# Altium integrated library Renesas Diode.IntLib: 1609 symbols (part 2 of 31)
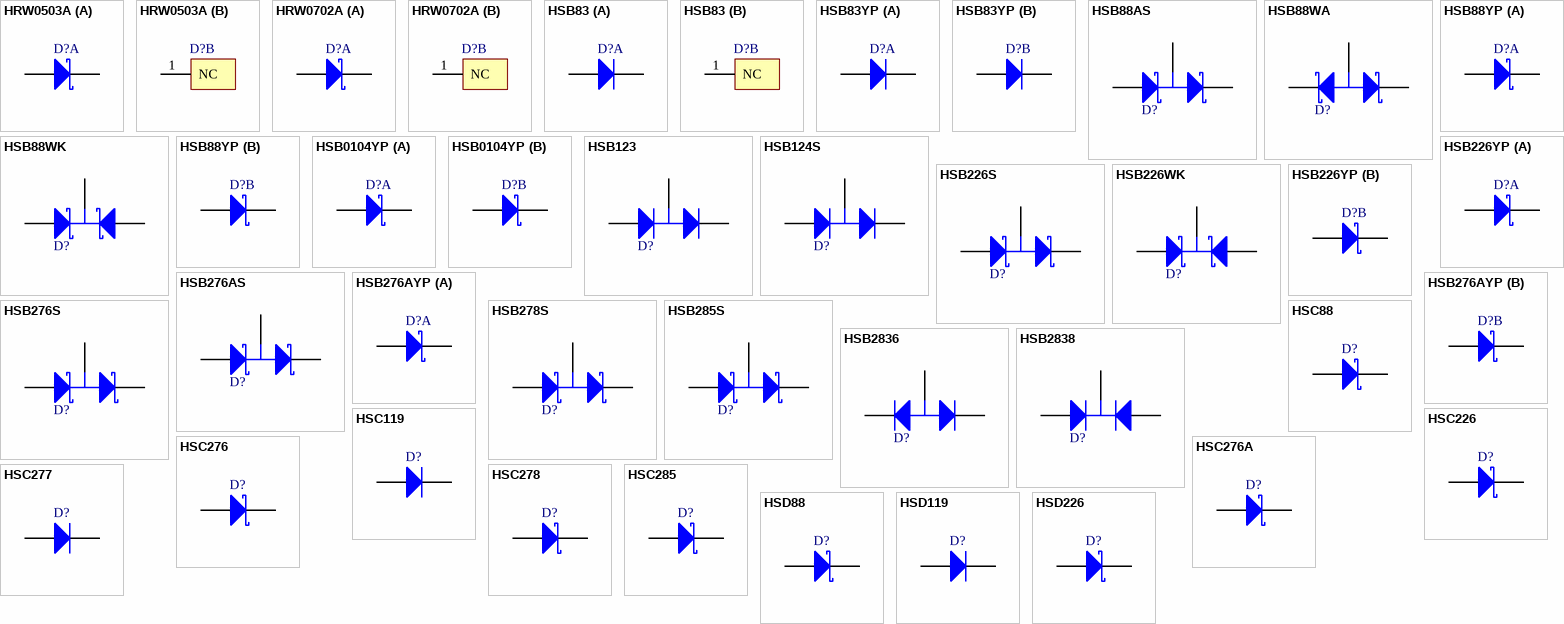
[diagram p46: symbols HRW0503A to HSD226]

## HSB226YP
designator D?
Silicon Schottky Barrier Diode; Published: 12-Feb-2010; DatasheetVersion: Rev.2.00, Sep-2006; PackageVersion: Sep-2005; PackageReference: PTSP0004ZB-A; Publisher: Altium Limited; PackageDescription: 4-Pin Plastic SOT Package 1.3 mm Pitch, 2.1 mm Lead Span (CMPAK-4); Code_JEITA: SC-82; ComponentLink1Description: Manufacturer Link; ComponentLink1URL: http://sg.renesas.com/fmwk.jsp?cnt=diode_landing.jsp&fp=/products/discrete/diodes/; ComponentLink2Description: Datasheet; ComponentLink2URL: http://documentation.renesas.com/eng/products/diode/rej03g0593_hsb226yp.pdf; ComponentLink3Description: Packaging Specification; ComponentLink3URL: http://sg.renesas.com/media/products/common_info/package/pdf/diode/code/ptsp0004zb_a.pdf
footprint PTSP0004ZB-A_N (SOT, 4-Leads, Body 2x1.3 mm, Pitch 1.3mm, Lead Span 2.1mm, IPC Medium Density)
footprint PTSP0004ZB-A_L (SOT, 4-Leads, Body 2x1.3 mm, Pitch 1.3mm, Lead Span 2.1mm, IPC High Density)
footprint PTSP0004ZB-A_M (SOT, 4-Leads, Body 2x1.3 mm, Pitch 1.3mm, Lead Span 2.1mm, IPC Low Density)
signal-integrity model HSB226YP
part A pins: 1 A, 4 K
part B pins: 2 A, 3 K

## HSB276AS
designator D?
Silicon Schottky Barrier Diode for Balanced Mixer; Published: 12-Feb-2010; DatasheetVersion: Rev.1.00, Apr-2005; PackageVersion: Sep-2005; PackageReference: PTSP0003ZB-A; Publisher: Altium Limited; PackageDescription: 3-Pin Plastic SOT-23 Package 0.65 mm Pitch, 2.1 mm Lead Span (CMPAK); Code_JEITA: SC-70; ComponentLink1Description: Manufacturer Link; ComponentLink1URL: http://sg.renesas.com/fmwk.jsp?cnt=diode_landing.jsp&fp=/products/discrete/diodes/; ComponentLink2Description: Datasheet; ComponentLink2URL: http://documentation.renesas.com/eng/products/diode/rej03g0594_hsb276as.pdf; ComponentLink3Description: Packaging Specification; ComponentLink3URL: http://sg.renesas.com/media/products/common_info/package/pdf/diode/code/ptsp0003zb_a.pdf
footprint PTSP0003ZB-A_N (SOT23, 3-Leads, Body 2.0 x1.25mm, Pitch 0.65mm, Lead Span 2.1mm, IPC Medium Density)
footprint PTSP0003ZB-A_L (SOT23, 3-Leads, Body 2.0 x1.25mm, Pitch 0.65mm, Lead Span 2.1mm, IPC High Density)
footprint PTSP0003ZB-A_M (SOT23, 3-Leads, Body 2.0 x1.25mm, Pitch 0.65mm, Lead Span 2.1mm, IPC Low Density)
signal-integrity model HSB276AS
pins: 1 K, 2 A, 3 C

## HSB276AYP
designator D?
Silicon Schottky Barrier Diode for High Speed Switching; Published: 12-Feb-2010; DatasheetVersion: Rev.1.00, Apr-2005; PackageVersion: Sep-2005; PackageReference: PTSP0004ZB-A; Publisher: Altium Limited; PackageDescription: 4-Pin Plastic SOT Package 1.3 mm Pitch, 2.1 mm Lead Span (CMPAK-4); Code_JEITA: SC-82; ComponentLink1Description: Manufacturer Link; ComponentLink1URL: http://sg.renesas.com/fmwk.jsp?cnt=diode_landing.jsp&fp=/products/discrete/diodes/; ComponentLink2Description: Datasheet; ComponentLink2URL: http://documentation.renesas.com/eng/products/diode/rej03g0595_hsb276ayp.pdf; ComponentLink3Description: Packaging Specification; ComponentLink3URL: http://sg.renesas.com/media/products/common_info/package/pdf/diode/code/ptsp0004zb_a.pdf
footprint PTSP0004ZB-A_N (SOT, 4-Leads, Body 2x1.3 mm, Pitch 1.3mm, Lead Span 2.1mm, IPC Medium Density)
footprint PTSP0004ZB-A_L (SOT, 4-Leads, Body 2x1.3 mm, Pitch 1.3mm, Lead Span 2.1mm, IPC High Density)
footprint PTSP0004ZB-A_M (SOT, 4-Leads, Body 2x1.3 mm, Pitch 1.3mm, Lead Span 2.1mm, IPC Low Density)
signal-integrity model HSB276AYP
part A pins: 1 A, 4 K
part B pins: 2 A, 3 K

## HSB276S
designator D?
Silicon Schottky Barrier Diode for Balanced Mixer; Published: 12-Feb-2010; DatasheetVersion: Rev.1.00, Nov-2003; PackageVersion: Sep-2005; PackageReference: PTSP0003ZB-A; Publisher: Altium Limited; PackageDescription: 3-Pin Plastic SOT-23 Package 0.65 mm Pitch, 2.1 mm Lead Span (CMPAK); Code_JEITA: SC-70; ComponentLink1Description: Manufacturer Link; ComponentLink1URL: http://sg.renesas.com/fmwk.jsp?cnt=diode_landing.jsp&fp=/products/discrete/diodes/; ComponentLink2Description: Datasheet; ComponentLink2URL: http://documentation.renesas.com/eng/products/diode/rej03g0133_hsb276s.pdf; ComponentLink3Description: Packaging Specification; ComponentLink3URL: http://sg.renesas.com/media/products/common_info/package/pdf/diode/code/ptsp0003zb_a.pdf
footprint PTSP0003ZB-A_N (SOT23, 3-Leads, Body 2.0 x1.25mm, Pitch 0.65mm, Lead Span 2.1mm, IPC Medium Density)
footprint PTSP0003ZB-A_L (SOT23, 3-Leads, Body 2.0 x1.25mm, Pitch 0.65mm, Lead Span 2.1mm, IPC High Density)
footprint PTSP0003ZB-A_M (SOT23, 3-Leads, Body 2.0 x1.25mm, Pitch 0.65mm, Lead Span 2.1mm, IPC Low Density)
signal-integrity model HSB276S
pins: 1 K, 2 A, 3 C

## HSB278S
designator D?
Silicon Schottky Barrier Diode for High Speed Switching; Published: 12-Feb-2010; DatasheetVersion: Rev.1.00, Apr-2005; PackageVersion: Sep-2005; PackageReference: PTSP0003ZB-A; Publisher: Altium Limited; PackageDescription: 3-Pin Plastic SOT-23 Package 0.65 mm Pitch, 2.1 mm Lead Span (CMPAK); Code_JEITA: SC-70; ComponentLink1Description: Manufacturer Link; ComponentLink1URL: http://sg.renesas.com/fmwk.jsp?cnt=diode_landing.jsp&fp=/products/discrete/diodes/; ComponentLink2Description: Datasheet; ComponentLink2URL: http://documentation.renesas.com/eng/products/diode/rej03g0596_hsb278s.pdf; ComponentLink3Description: Packaging Specification; ComponentLink3URL: http://sg.renesas.com/media/products/common_info/package/pdf/diode/code/ptsp0003zb_a.pdf
footprint PTSP0003ZB-A_N (SOT23, 3-Leads, Body 2.0 x1.25mm, Pitch 0.65mm, Lead Span 2.1mm, IPC Medium Density)
footprint PTSP0003ZB-A_L (SOT23, 3-Leads, Body 2.0 x1.25mm, Pitch 0.65mm, Lead Span 2.1mm, IPC High Density)
footprint PTSP0003ZB-A_M (SOT23, 3-Leads, Body 2.0 x1.25mm, Pitch 0.65mm, Lead Span 2.1mm, IPC Low Density)
signal-integrity model HSB278S
pins: 1 K, 2 A, 3 C

## HSB285S
designator D?
Silicon Schottky Barrier Diode for Detector; Published: 12-Feb-2010; DatasheetVersion: Rev.2.00, May-2006; PackageVersion: Sep-2005; PackageReference: PTSP0003ZB-A; Publisher: Altium Limited; PackageDescription: 3-Pin Plastic SOT-23 Package 0.65 mm Pitch, 2.1 mm Lead Span (CMPAK); Code_JEITA: SC-70; ComponentLink1Description: Manufacturer Link; ComponentLink1URL: http://sg.renesas.com/fmwk.jsp?cnt=diode_landing.jsp&fp=/products/discrete/diodes/; ComponentLink2Description: Datasheet; ComponentLink2URL: http://documentation.renesas.com/eng/products/diode/rej03g0010_hsb285s.pdf; ComponentLink3Description: Packaging Specification; ComponentLink3URL: http://sg.renesas.com/media/products/common_info/package/pdf/diode/code/ptsp0003zb_a.pdf
footprint PTSP0003ZB-A_N (SOT23, 3-Leads, Body 2.0 x1.25mm, Pitch 0.65mm, Lead Span 2.1mm, IPC Medium Density)
footprint PTSP0003ZB-A_L (SOT23, 3-Leads, Body 2.0 x1.25mm, Pitch 0.65mm, Lead Span 2.1mm, IPC High Density)
footprint PTSP0003ZB-A_M (SOT23, 3-Leads, Body 2.0 x1.25mm, Pitch 0.65mm, Lead Span 2.1mm, IPC Low Density)
signal-integrity model HSB285S
pins: 1 K, 2 A, 3 C

## HSB2836
designator D?
Silicon Epitaxial Planar Diode for High Speed Switching; Published: 12-Feb-2010; DatasheetVersion: Rev.3.00, Dec-2008; PackageVersion: Sep-2005; PackageReference: PTSP0003ZB-A; Publisher: Altium Limited; PackageDescription: 3-Pin Plastic SOT-23 Package 0.65 mm Pitch, 2.1 mm Lead Span (CMPAK); Code_JEITA: SC-70; ComponentLink1Description: Manufacturer Link; ComponentLink1URL: http://sg.renesas.com/fmwk.jsp?cnt=diode_landing.jsp&fp=/products/discrete/diodes/; ComponentLink2Description: Datasheet; ComponentLink2URL: http://documentation.renesas.com/eng/products/diode/rej03g0548_hsb2836.pdf; ComponentLink3Description: Packaging Specification; ComponentLink3URL: http://sg.renesas.com/media/products/common_info/package/pdf/diode/code/ptsp0003zb_a.pdf
footprint PTSP0003ZB-A_N (SOT23, 3-Leads, Body 2.0 x1.25mm, Pitch 0.65mm, Lead Span 2.1mm, IPC Medium Density)
footprint PTSP0003ZB-A_L (SOT23, 3-Leads, Body 2.0 x1.25mm, Pitch 0.65mm, Lead Span 2.1mm, IPC High Density)
footprint PTSP0003ZB-A_M (SOT23, 3-Leads, Body 2.0 x1.25mm, Pitch 0.65mm, Lead Span 2.1mm, IPC Low Density)
signal-integrity model HSB2836
pins: 1 K1, 2 K2, 3 A

## HSB2838
designator D?
Silicon Epitaxial Planar Diode for High Speed Switching; Published: 12-Feb-2010; DatasheetVersion: Rev.3.00, Jan-2009; PackageVersion: Sep-2005; PackageReference: PTSP0003ZB-A; Publisher: Altium Limited; PackageDescription: 3-Pin Plastic SOT-23 Package 0.65 mm Pitch, 2.1 mm Lead Span (CMPAK); Code_JEITA: SC-70; ComponentLink1Description: Manufacturer Link; ComponentLink1URL: http://sg.renesas.com/fmwk.jsp?cnt=diode_landing.jsp&fp=/products/discrete/diodes/; ComponentLink2Description: Datasheet; ComponentLink2URL: http://documentation.renesas.com/eng/products/diode/rej03g0549_hsb2838.pdf; ComponentLink3Description: Packaging Specification; ComponentLink3URL: http://sg.renesas.com/media/products/common_info/package/pdf/diode/code/ptsp0003zb_a.pdf
footprint PTSP0003ZB-A_N (SOT23, 3-Leads, Body 2.0 x1.25mm, Pitch 0.65mm, Lead Span 2.1mm, IPC Medium Density)
footprint PTSP0003ZB-A_L (SOT23, 3-Leads, Body 2.0 x1.25mm, Pitch 0.65mm, Lead Span 2.1mm, IPC High Density)
footprint PTSP0003ZB-A_M (SOT23, 3-Leads, Body 2.0 x1.25mm, Pitch 0.65mm, Lead Span 2.1mm, IPC Low Density)
signal-integrity model HSB2838
pins: 1 A1, 2 A2, 3 K

## HSC88
designator D?
Silicon Schottky Barrier Diode for Various Detector, Mixer; Published: 12-Feb-2010; DatasheetVersion: Rev.1.00, Apr-2005; PackageVersion: Oct-2006; PackageReference: PWSF0002ZA-A; Publisher: Altium Limited; PackageDescription: 2-Pin Plastic Small Outline Diode, Flat Leads, Body 0.8 x 1.2 mm (UFP); Code_JEITA: SC-79; ComponentLink1Description: Manufacturer Link; ComponentLink1URL: http://sg.renesas.com/fmwk.jsp?cnt=diode_landing.jsp&fp=/products/discrete/diodes/; ComponentLink2Description: Datasheet; ComponentLink2URL: http://documentation.renesas.com/eng/products/diode/rej03g0624_hsc88.pdf; ComponentLink3Description: Packaging Specification; ComponentLink3URL: http://sg.renesas.com/media/products/common_info/package/pdf/diode/code/pwsf0002za_a.pdf
footprint PWSF0002ZA-A (SOD, 2-Flat Leads, Body 0.8x1.2x0.7mm, Renesas Recommended)
signal-integrity model HSC88
pins: 1 K, 2 A

## HSC119
designator D?
Silicon Epitaxial Planar Diode for High Speed Switching; Published: 12-Feb-2010; DatasheetVersion: Rev.1.00, Mar-2004; PackageVersion: Oct-2006; PackageReference: PWSF0002ZA-A; Publisher: Altium Limited; PackageDescription: 2-Pin Plastic Small Outline Diode, Flat Leads, Body 0.8 x 1.2 mm (UFP); Code_JEITA: SC-79; ComponentLink1Description: Manufacturer Link; ComponentLink1URL: http://sg.renesas.com/fmwk.jsp?cnt=diode_landing.jsp&fp=/products/discrete/diodes/; ComponentLink2Description: Datasheet; ComponentLink2URL: http://documentation.renesas.com/eng/products/diode/rej03g0188_hsc119.pdf; ComponentLink3Description: Packaging Specification; ComponentLink3URL: http://sg.renesas.com/media/products/common_info/package/pdf/diode/code/pwsf0002za_a.pdf
footprint PWSF0002ZA-A (SOD, 2-Flat Leads, Body 0.8x1.2x0.7mm, Renesas Recommended)
signal-integrity model HSC119
pins: 1 K, 2 A

## HSC226
designator D?
Silicon Schottky Barrier Diode; Published: 12-Feb-2010; DatasheetVersion: Rev.3.00, Sep-2006; PackageVersion: Oct-2006; PackageReference: PWSF0002ZA-A; Publisher: Altium Limited; PackageDescription: 2-Pin Plastic Small Outline Diode, Flat Leads, Body 0.8 x 1.2 mm (UFP); Code_JEITA: SC-79; ComponentLink1Description: Manufacturer Link; ComponentLink1URL: http://sg.renesas.com/fmwk.jsp?cnt=diode_landing.jsp&fp=/products/discrete/diodes/; ComponentLink2Description: Datasheet; ComponentLink2URL: http://documentation.renesas.com/eng/products/diode/rej03g0599_hsc226.pdf; ComponentLink3Description: Packaging Specification; ComponentLink3URL: http://sg.renesas.com/media/products/common_info/package/pdf/diode/code/pwsf0002za_a.pdf
footprint PWSF0002ZA-A (SOD, 2-Flat Leads, Body 0.8x1.2x0.7mm, Renesas Recommended)
signal-integrity model HSC226
pins: 1 K, 2 A

## HSC276
designator D?
Silicon Schottky Barrier Diode for Mixer; Published: 12-Feb-2010; DatasheetVersion: Rev.2.00, Nov-2003; PackageVersion: Oct-2006; PackageReference: PWSF0002ZA-A; Publisher: Altium Limited; PackageDescription: 2-Pin Plastic Small Outline Diode, Flat Leads, Body 0.8 x 1.2 mm (UFP); Code_JEITA: SC-79; ComponentLink1Description: Manufacturer Link; ComponentLink1URL: http://sg.renesas.com/fmwk.jsp?cnt=diode_landing.jsp&fp=/products/discrete/diodes/; ComponentLink2Description: Datasheet; ComponentLink2URL: http://documentation.renesas.com/eng/products/diode/rej03g0134_hsc276.pdf; ComponentLink3Description: Packaging Specification; ComponentLink3URL: http://sg.renesas.com/media/products/common_info/package/pdf/diode/code/pwsf0002za_a.pdf
footprint PWSF0002ZA-A (SOD, 2-Flat Leads, Body 0.8x1.2x0.7mm, Renesas Recommended)
signal-integrity model HSC276
pins: 1 K, 2 A

## HSC276A
designator D?
Silicon Schottky Barrier Diode for Mixer; Published: 12-Feb-2010; DatasheetVersion: Rev.1.00, Apr-2005; PackageVersion: Oct-2006; PackageReference: PWSF0002ZA-A; Publisher: Altium Limited; PackageDescription: 2-Pin Plastic Small Outline Diode, Flat Leads, Body 0.8 x 1.2 mm (UFP); Code_JEITA: SC-79; ComponentLink1Description: Manufacturer Link; ComponentLink1URL: http://sg.renesas.com/fmwk.jsp?cnt=diode_landing.jsp&fp=/products/discrete/diodes/; ComponentLink2Description: Datasheet; ComponentLink2URL: http://documentation.renesas.com/eng/products/diode/rej03g0600_hsc276a.pdf; ComponentLink3Description: Packaging Specification; ComponentLink3URL: http://sg.renesas.com/media/products/common_info/package/pdf/diode/code/pwsf0002za_a.pdf
footprint PWSF0002ZA-A (SOD, 2-Flat Leads, Body 0.8x1.2x0.7mm, Renesas Recommended)
signal-integrity model HSC276A
pins: 1 K, 2 A

## HSC277
designator D?
Silicon Epitaxial Planar Diode for UHF/VHF tuner Band Switch; Published: 12-Feb-2010; DatasheetVersion: Rev.2.00, Mar-2005; PackageVersion: Oct-2006; PackageReference: PWSF0002ZA-A; Publisher: Altium Limited; PackageDescription: 2-Pin Plastic Small Outline Diode, Flat Leads, Body 0.8 x 1.2 mm (UFP); Code_JEITA: SC-79; ComponentLink1Description: Manufacturer Link; ComponentLink1URL: http://sg.renesas.com/fmwk.jsp?cnt=diode_landing.jsp&fp=/products/discrete/diodes/; ComponentLink2Description: Datasheet; ComponentLink2URL: http://documentation.renesas.com/eng/products/diode/rej03g0585_hsc277.pdf; ComponentLink3Description: Packaging Specification; ComponentLink3URL: http://sg.renesas.com/media/products/common_info/package/pdf/diode/code/pwsf0002za_a.pdf
footprint PWSF0002ZA-A (SOD, 2-Flat Leads, Body 0.8x1.2x0.7mm, Renesas Recommended)
signal-integrity model HSC277
pins: 1 K, 2 A

## HSC278
designator D?
Silicon Schottky Barrier Diode; Published: 12-Feb-2010; DatasheetVersion: Rev.3.00, Apr-2005; PackageVersion: Oct-2006; PackageReference: PWSF0002ZA-A; Publisher: Altium Limited; PackageDescription: 2-Pin Plastic Small Outline Diode, Flat Leads, Body 0.8 x 1.2 mm (UFP); Code_JEITA: SC-79; ComponentLink1Description: Manufacturer Link; ComponentLink1URL: http://sg.renesas.com/fmwk.jsp?cnt=diode_landing.jsp&fp=/products/discrete/diodes/; ComponentLink2Description: Datasheet; ComponentLink2URL: http://documentation.renesas.com/eng/products/diode/rej03g0601_hsc278.pdf; ComponentLink3Description: Packaging Specification; ComponentLink3URL: http://sg.renesas.com/media/products/common_info/package/pdf/diode/code/pwsf0002za_a.pdf
footprint PWSF0002ZA-A (SOD, 2-Flat Leads, Body 0.8x1.2x0.7mm, Renesas Recommended)
signal-integrity model HSC278
pins: 1 K, 2 A

## HSC285
designator D?
Silicon Schottky Barrier Diode for Detector; Published: 12-Feb-2010; DatasheetVersion: Rev.2.00, May-2006; PackageVersion: Oct-2006; PackageReference: PWSF0002ZA-A; Publisher: Altium Limited; PackageDescription: 2-Pin Plastic Small Outline Diode, Flat Leads, Body 0.8 x 1.2 mm (UFP); Code_JEITA: SC-79; ComponentLink1Description: Manufacturer Link; ComponentLink1URL: http://sg.renesas.com/fmwk.jsp?cnt=diode_landing.jsp&fp=/products/discrete/diodes/; ComponentLink2Description: Datasheet; ComponentLink2URL: http://documentation.renesas.com/eng/products/diode/rej03g0011_hsc285.pdf; ComponentLink3Description: Packaging Specification; ComponentLink3URL: http://sg.renesas.com/media/products/common_info/package/pdf/diode/code/pwsf0002za_a.pdf
footprint PWSF0002ZA-A (SOD, 2-Flat Leads, Body 0.8x1.2x0.7mm, Renesas Recommended)
signal-integrity model HSC285
pins: 1 K, 2 A

## HSD88
designator D?
Silicon Schottky Barrier Diode for Various Detector, Mixer; Published: 12-Feb-2010; DatasheetVersion: Rev.1.00, Apr-2005; PackageVersion: Oct-2006; PackageReference: PUSF0002ZB-A; Publisher: Altium Limited; PackageDescription: 2-Pin Plastic Small Outline Diode, Flat Leads, Body 0.6 x 1.0 mm (SFP); ComponentLink1Description: Manufacturer Link; ComponentLink1URL: http://sg.renesas.com/fmwk.jsp?cnt=diode_landing.jsp&fp=/products/discrete/diodes/; ComponentLink2Description: Datasheet; ComponentLink2URL: http://documentation.renesas.com/eng/products/diode/rej03g0602_hsd88.pdf; ComponentLink3Description: Packaging Specification; ComponentLink3URL: http://sg.renesas.com/media/products/common_info/package/pdf/diode/code/pusf0002zb_a.pdf
footprint PUSF0002ZB-A (SOD, 2-Flat Leads, Body 0.6x1.0x0.55mm, Renesas Recommended)
signal-integrity model HSD88
pins: 1 K, 2 A

## HSD119
designator D?
Silicon Epitaxial Planar Diode for High Speed Switching; Published: 12-Feb-2010; DatasheetVersion: Rev.1.00, Oct-2005; PackageVersion: Oct-2006; PackageReference: PUSF0002ZB-A; Publisher: Altium Limited; PackageDescription: 2-Pin Plastic Small Outline Diode, Flat Leads, Body 0.6 x 1.0 mm (SFP); ComponentLink1Description: Manufacturer Link; ComponentLink1URL: http://sg.renesas.com/fmwk.jsp?cnt=diode_landing.jsp&fp=/products/discrete/diodes/; ComponentLink2Description: Datasheet; ComponentLink2URL: http://documentation.renesas.com/eng/products/diode/rej03g1309_hsd119.pdf; ComponentLink3Description: Packaging Specification; ComponentLink3URL: http://sg.renesas.com/media/products/common_info/package/pdf/diode/code/pusf0002zb_a.pdf
footprint PUSF0002ZB-A (SOD, 2-Flat Leads, Body 0.6x1.0x0.55mm, Renesas Recommended)
signal-integrity model HSD119
pins: 1 K, 2 A

## HSD226
designator D?
Silicon Schottky Barrier Diode for High Speed Switching; Published: 12-Feb-2010; DatasheetVersion: Rev.4.00, Feb-2007; PackageVersion: Oct-2006; PackageReference: PUSF0002ZB-A; Publisher: Altium Limited; PackageDescription: 2-Pin Plastic Small Outline Diode, Flat Leads, Body 0.6 x 1.0 mm (SFP); ComponentLink1Description: Manufacturer Link; ComponentLink1URL: http://sg.renesas.com/fmwk.jsp?cnt=diode_landing.jsp&fp=/products/discrete/diodes/; ComponentLink2Description: Datasheet; ComponentLink2URL: http://documentation.renesas.com/eng/products/diode/rej03g0603_hsd226.pdf; ComponentLink3Description: Packaging Specification; ComponentLink3URL: http://sg.renesas.com/media/products/common_info/package/pdf/diode/code/pusf0002zb_a.pdf
footprint PUSF0002ZB-A (SOD, 2-Flat Leads, Body 0.6x1.0x0.55mm, Renesas Recommended)
signal-integrity model HSD226
pins: 1 K, 2 A

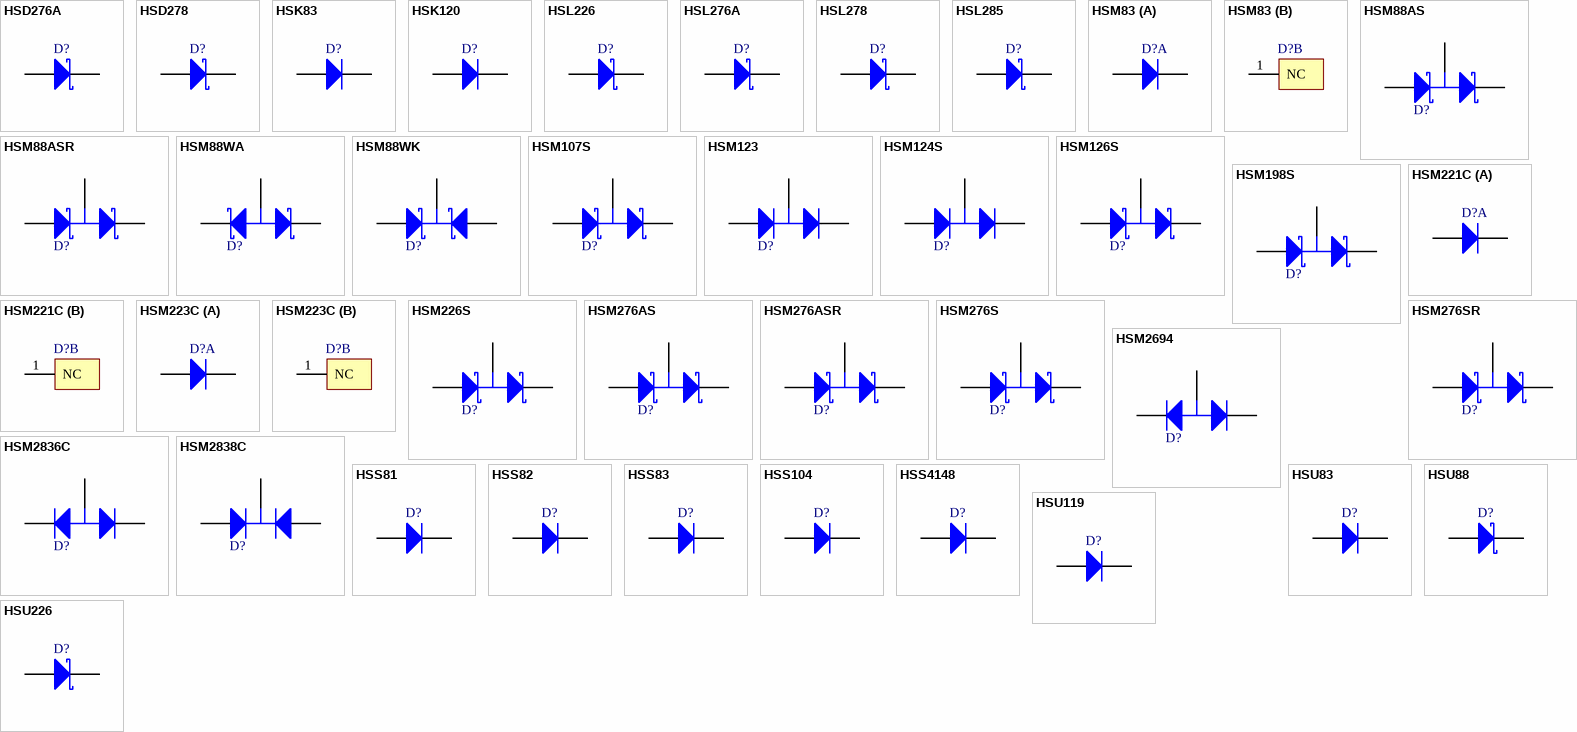
[diagram p2: symbols HSD276A to HSU226]

## HSD276A
designator D?
Silicon Schottky Barrier Diode for Detector; Published: 12-Feb-2010; DatasheetVersion: Rev.1.00, Apr-2005; PackageVersion: Oct-2006; PackageReference: PUSF0002ZB-A; Publisher: Altium Limited; PackageDescription: 2-Pin Plastic Small Outline Diode, Flat Leads, Body 0.6 x 1.0 mm (SFP); ComponentLink1Description: Manufacturer Link; ComponentLink1URL: http://sg.renesas.com/fmwk.jsp?cnt=diode_landing.jsp&fp=/products/discrete/diodes/; ComponentLink2Description: Datasheet; ComponentLink2URL: http://documentation.renesas.com/eng/products/diode/rej03g0604_hsd276a.pdf; ComponentLink3Description: Packaging Specification; ComponentLink3URL: http://sg.renesas.com/media/products/common_info/package/pdf/diode/code/pusf0002zb_a.pdf
footprint PUSF0002ZB-A (SOD, 2-Flat Leads, Body 0.6x1.0x0.55mm, Renesas Recommended)
signal-integrity model HSD276A
pins: 1 K, 2 A

## HSD278
designator D?
Silicon Schottky Barrier Diode; Published: 12-Feb-2010; DatasheetVersion: Rev.2.00, Apr-2005; PackageVersion: Oct-2006; PackageReference: PUSF0002ZB-A; Publisher: Altium Limited; PackageDescription: 2-Pin Plastic Small Outline Diode, Flat Leads, Body 0.6 x 1.0 mm (SFP); ComponentLink1Description: Manufacturer Link; ComponentLink1URL: http://sg.renesas.com/fmwk.jsp?cnt=diode_landing.jsp&fp=/products/discrete/diodes/; ComponentLink2Description: Datasheet; ComponentLink2URL: http://documentation.renesas.com/eng/products/diode/rej03g0605_hsd278.pdf; ComponentLink3Description: Packaging Specification; ComponentLink3URL: http://sg.renesas.com/media/products/common_info/package/pdf/diode/code/pusf0002zb_a.pdf
footprint PUSF0002ZB-A (SOD, 2-Flat Leads, Body 0.6x1.0x0.55mm, Renesas Recommended)
signal-integrity model HSD278
pins: 1 K, 2 A

## HSK83
designator D?
Silicon Epitaxial Planar Diode for High Voltage Switching; Published: 12-Feb-2010; DatasheetVersion: Rev.4.00, Mar-2004; PackageVersion: Aug-2005; PackageReference: GLZZ0002ZA-A; Publisher: Altium Limited; PackageDescription: Metal Electrode Face (MELF) Diode; Body 3.5 x 1.35 mm (LxDia); ComponentLink1Description: Manufacturer Link; ComponentLink1URL: http://sg.renesas.com/fmwk.jsp?cnt=diode_landing.jsp&fp=/products/discrete/diodes/; ComponentLink2Description: Datasheet; ComponentLink2URL: http://documentation.renesas.com/eng/products/diode/rej03g0191_hsk83.pdf; ComponentLink3Description: Packaging Specification; ComponentLink3URL: http://sg.renesas.com/media/products/common_info/package/pdf/diode/code/glzz0002za_a.pdf
footprint GLZZ0002ZA-A (Metal Electrode Face (MELF) Diode; Body 3.5 x 1.35 mm (LxDia))
signal-integrity model HSK83
pins: 1 K, 2 A

## HSK120
designator D?
Silicon Epitaxial Planar Diode for High Speed Switching; Published: 12-Feb-2010; DatasheetVersion: Rev.4.00, Mar-2004; PackageVersion: Aug-2005; PackageReference: GLZZ0002ZA-A; Publisher: Altium Limited; PackageDescription: Metal Electrode Face (MELF) Diode; Body 3.5 x 1.35 mm (LxDia); ComponentLink1Description: Manufacturer Link; ComponentLink1URL: http://sg.renesas.com/fmwk.jsp?cnt=diode_landing.jsp&fp=/products/discrete/diodes/; ComponentLink2Description: Datasheet; ComponentLink2URL: http://documentation.renesas.com/eng/products/diode/rej03g0192_hsk120.pdf; ComponentLink3Description: Packaging Specification; ComponentLink3URL: http://sg.renesas.com/media/products/common_info/package/pdf/diode/code/glzz0002za_a.pdf
footprint GLZZ0002ZA-A (Metal Electrode Face (MELF) Diode; Body 3.5 x 1.35 mm (LxDia))
signal-integrity model HSK120
pins: 1 K, 2 A

## HSL226
designator D?
Silicon Schottky Barrier Diode for High Speed Switching; Published: 12-Feb-2010; DatasheetVersion: Rev.3.00, Feb-2007; PackageVersion: Oct-2006; PackageReference: PXSF0002ZA-A; Publisher: Altium Limited; PackageDescription: 2-Pin Plastic Small Outline Diode, Flat Leads, Body 0.6 x 0.8 mm (EFP); ComponentLink1Description: Manufacturer Link; ComponentLink1URL: http://sg.renesas.com/fmwk.jsp?cnt=diode_landing.jsp&fp=/products/discrete/diodes/; ComponentLink2Description: Datasheet; ComponentLink2URL: http://documentation.renesas.com/eng/products/diode/rej03g0016_hsl226.pdf; ComponentLink3Description: Packaging Specification; ComponentLink3URL: http://sg.renesas.com/media/products/common_info/package/pdf/diode/code/pxsf0002za_a.pdf
footprint PXSF0002ZA-A (SOD, 2-Flat Leads, Body 0.6x0.8x0.5mm, Renesas Recommended)
signal-integrity model HSL226
pins: 1 K, 2 A

## HSL276A
designator D?
Silicon Schottky Barrier Diode for Detector; Published: 12-Feb-2010; DatasheetVersion: Rev.1.00, Feb-2005; PackageVersion: Oct-2006; PackageReference: PXSF0002ZA-A; Publisher: Altium Limited; PackageDescription: 2-Pin Plastic Small Outline Diode, Flat Leads, Body 0.6 x 0.8 mm (EFP); ComponentLink1Description: Manufacturer Link; ComponentLink1URL: http://sg.renesas.com/fmwk.jsp?cnt=diode_landing.jsp&fp=/products/discrete/diodes/; ComponentLink2Description: Datasheet; ComponentLink2URL: http://documentation.renesas.com/eng/products/diode/rej03g0528_hsl276a.pdf; ComponentLink3Description: Packaging Specification; ComponentLink3URL: http://sg.renesas.com/media/products/common_info/package/pdf/diode/code/pxsf0002za_a.pdf
footprint PXSF0002ZA-A (SOD, 2-Flat Leads, Body 0.6x0.8x0.5mm, Renesas Recommended)
signal-integrity model HSL276A
pins: 1 K, 2 A

## HSL278
designator D?
Silicon Schottky Barrier Diode; Published: 12-Feb-2010; DatasheetVersion: Rev.1.00, Apr-2005; PackageVersion: Oct-2006; PackageReference: PXSF0002ZA-A; Publisher: Altium Limited; PackageDescription: 2-Pin Plastic Small Outline Diode, Flat Leads, Body 0.6 x 0.8 mm (EFP); ComponentLink1Description: Manufacturer Link; ComponentLink1URL: http://sg.renesas.com/fmwk.jsp?cnt=diode_landing.jsp&fp=/products/discrete/diodes/; ComponentLink2Description: Datasheet; ComponentLink2URL: http://documentation.renesas.com/eng/products/diode/rej03g0606_hsl278.pdf; ComponentLink3Description: Packaging Specification; ComponentLink3URL: http://sg.renesas.com/media/products/common_info/package/pdf/diode/code/pxsf0002za_a.pdf
footprint PXSF0002ZA-A (SOD, 2-Flat Leads, Body 0.6x0.8x0.5mm, Renesas Recommended)
signal-integrity model HSL278
pins: 1 K, 2 A

## HSL285
designator D?
Silicon Schottky Barrier Diode for Detector; Published: 12-Feb-2010; DatasheetVersion: Rev.2.00, May-2006; PackageVersion: Oct-2006; PackageReference: PXSF0002ZA-A; Publisher: Altium Limited; PackageDescription: 2-Pin Plastic Small Outline Diode, Flat Leads, Body 0.6 x 0.8 mm (EFP); ComponentLink1Description: Manufacturer Link; ComponentLink1URL: http://sg.renesas.com/fmwk.jsp?cnt=diode_landing.jsp&fp=/products/discrete/diodes/; ComponentLink2Description: Datasheet; ComponentLink2URL: http://documentation.renesas.com/eng/products/diode/rej03g0527_hsl285.pdf; ComponentLink3Description: Packaging Specification; ComponentLink3URL: http://sg.renesas.com/media/products/common_info/package/pdf/diode/code/pxsf0002za_a.pdf
footprint PXSF0002ZA-A (SOD, 2-Flat Leads, Body 0.6x0.8x0.5mm, Renesas Recommended)
signal-integrity model HSL285
pins: 1 K, 2 A

## HSM83
designator D?
Silicon Epitaxial Planar Diode for High Voltage Switching; Published: 12-Feb-2010; DatasheetVersion: Rev.6.00, Dec-2008; PackageVersion: Aug-2005; PackageReference: PLSP0003ZC-A; Publisher: Altium Limited; PackageDescription: 3-Pin Plastic SOT-23 Package 0.95 mm Pitch, 2.8 mm Lead Span - Alternate Lead Configuration (MPAK); Code_JEITA: SC-59A; ComponentLink1Description: Manufacturer Link; ComponentLink1URL: http://sg.renesas.com/fmwk.jsp?cnt=diode_landing.jsp&fp=/products/discrete/diodes/; ComponentLink2Description: Datasheet; ComponentLink2URL: http://documentation.renesas.com/eng/products/diode/rej03g0172_hsm83.pdf; ComponentLink3Description: Packaging Specification; ComponentLink3URL: http://sg.renesas.com/media/products/common_info/package/pdf/diode/code/plsp0003zc_a.pdf
footprint PLSP0003ZC-A_N (SOT23, 3-Leads, Body 2.9x1.5mm, Pitch 0.95mm, Lead Span 2.8mm - Alternate Lead Configuration, IPC Medium Density)
footprint PLSP0003ZC-A_L (SOT23, 3-Leads, Body 2.9x1.5mm, Pitch 0.95mm, Lead Span 2.8mm - Alternate Lead Configuration, IPC High Density)
footprint PLSP0003ZC-A_M (SOT23, 3-Leads, Body 2.9x1.5mm, Pitch 0.95mm, Lead Span 2.8mm - Alternate Lead Configuration, IPC Low Density)
signal-integrity model HSM83
part A pins: 2 A, 3 K
part B pins: 1 NC

## HSM88AS
designator D?
Silicon Schottky Barrier Diode for Balanced Mixer; Published: 12-Feb-2010; DatasheetVersion: Rev.6.00, Nov-2003; PackageVersion: Aug-2005; PackageReference: PLSP0003ZC-A; Publisher: Altium Limited; PackageDescription: 3-Pin Plastic SOT-23 Package 0.95 mm Pitch, 2.8 mm Lead Span - Alternate Lead Configuration (MPAK); Code_JEITA: SC-59A; ComponentLink1Description: Manufacturer Link; ComponentLink1URL: http://sg.renesas.com/fmwk.jsp?cnt=diode_landing.jsp&fp=/products/discrete/diodes/; ComponentLink2Description: Datasheet; ComponentLink2URL: http://documentation.renesas.com/eng/products/diode/rej03g0135_hsm88as.pdf; ComponentLink3Description: Packaging Specification; ComponentLink3URL: http://sg.renesas.com/media/products/common_info/package/pdf/diode/code/plsp0003zc_a.pdf
footprint PLSP0003ZC-A_N (SOT23, 3-Leads, Body 2.9x1.5mm, Pitch 0.95mm, Lead Span 2.8mm - Alternate Lead Configuration, IPC Medium Density)
footprint PLSP0003ZC-A_L (SOT23, 3-Leads, Body 2.9x1.5mm, Pitch 0.95mm, Lead Span 2.8mm - Alternate Lead Configuration, IPC High Density)
footprint PLSP0003ZC-A_M (SOT23, 3-Leads, Body 2.9x1.5mm, Pitch 0.95mm, Lead Span 2.8mm - Alternate Lead Configuration, IPC Low Density)
signal-integrity model HSM88AS
pins: 1 K, 2 A, 3 C

## HSM88ASR
designator D?
Silicon Schottky Barrier Diode for Balanced Mixer; Published: 12-Feb-2010; DatasheetVersion: Rev.5.00, Nov-2003; PackageVersion: Aug-2005; PackageReference: PLSP0003ZC-A; Publisher: Altium Limited; PackageDescription: 3-Pin Plastic SOT-23 Package 0.95 mm Pitch, 2.8 mm Lead Span - Alternate Lead Configuration (MPAK); Code_JEITA: SC-59A; ComponentLink1Description: Manufacturer Link; ComponentLink1URL: http://sg.renesas.com/fmwk.jsp?cnt=diode_landing.jsp&fp=/products/discrete/diodes/; ComponentLink2Description: Datasheet; ComponentLink2URL: http://documentation.renesas.com/eng/products/diode/rej03g0136_hsm88asr.pdf; ComponentLink3Description: Packaging Specification; ComponentLink3URL: http://sg.renesas.com/media/products/common_info/package/pdf/diode/code/plsp0003zc_a.pdf
footprint PLSP0003ZC-A_N (SOT23, 3-Leads, Body 2.9x1.5mm, Pitch 0.95mm, Lead Span 2.8mm - Alternate Lead Configuration, IPC Medium Density)
footprint PLSP0003ZC-A_L (SOT23, 3-Leads, Body 2.9x1.5mm, Pitch 0.95mm, Lead Span 2.8mm - Alternate Lead Configuration, IPC High Density)
footprint PLSP0003ZC-A_M (SOT23, 3-Leads, Body 2.9x1.5mm, Pitch 0.95mm, Lead Span 2.8mm - Alternate Lead Configuration, IPC Low Density)
signal-integrity model HSM88ASR
pins: 1 A, 2 K, 3 C

## HSM88WA
designator D?
Silicon Schottky Barrier Diode for Balanced Mixer; Published: 12-Feb-2010; DatasheetVersion: Rev.5.00, Nov-2003; PackageVersion: Aug-2005; PackageReference: PLSP0003ZC-A; Publisher: Altium Limited; PackageDescription: 3-Pin Plastic SOT-23 Package 0.95 mm Pitch, 2.8 mm Lead Span - Alternate Lead Configuration (MPAK); Code_JEITA: SC-59A; ComponentLink1Description: Manufacturer Link; ComponentLink1URL: http://sg.renesas.com/fmwk.jsp?cnt=diode_landing.jsp&fp=/products/discrete/diodes/; ComponentLink2Description: Datasheet; ComponentLink2URL: http://documentation.renesas.com/eng/products/diode/rej03g0137_hsm88wa.pdf; ComponentLink3Description: Packaging Specification; ComponentLink3URL: http://sg.renesas.com/media/products/common_info/package/pdf/diode/code/plsp0003zc_a.pdf
footprint PLSP0003ZC-A_N (SOT23, 3-Leads, Body 2.9x1.5mm, Pitch 0.95mm, Lead Span 2.8mm - Alternate Lead Configuration, IPC Medium Density)
footprint PLSP0003ZC-A_L (SOT23, 3-Leads, Body 2.9x1.5mm, Pitch 0.95mm, Lead Span 2.8mm - Alternate Lead Configuration, IPC High Density)
footprint PLSP0003ZC-A_M (SOT23, 3-Leads, Body 2.9x1.5mm, Pitch 0.95mm, Lead Span 2.8mm - Alternate Lead Configuration, IPC Low Density)
signal-integrity model HSM88WA
pins: 1 K1, 2 K2, 3 A

## HSM88WK
designator D?
Silicon Schottky Barrier Diode for Balanced Mixer; Published: 12-Feb-2010; DatasheetVersion: Rev.7.00, Nov-2003; PackageVersion: Aug-2005; PackageReference: PLSP0003ZC-A; Publisher: Altium Limited; PackageDescription: 3-Pin Plastic SOT-23 Package 0.95 mm Pitch, 2.8 mm Lead Span - Alternate Lead Configuration (MPAK); Code_JEITA: SC-59A; ComponentLink1Description: Manufacturer Link; ComponentLink1URL: http://sg.renesas.com/fmwk.jsp?cnt=diode_landing.jsp&fp=/products/discrete/diodes/; ComponentLink2Description: Datasheet; ComponentLink2URL: http://documentation.renesas.com/eng/products/diode/rej03g0138_hsm88wk.pdf; ComponentLink3Description: Packaging Specification; ComponentLink3URL: http://sg.renesas.com/media/products/common_info/package/pdf/diode/code/plsp0003zc_a.pdf
footprint PLSP0003ZC-A_N (SOT23, 3-Leads, Body 2.9x1.5mm, Pitch 0.95mm, Lead Span 2.8mm - Alternate Lead Configuration, IPC Medium Density)
footprint PLSP0003ZC-A_L (SOT23, 3-Leads, Body 2.9x1.5mm, Pitch 0.95mm, Lead Span 2.8mm - Alternate Lead Configuration, IPC High Density)
footprint PLSP0003ZC-A_M (SOT23, 3-Leads, Body 2.9x1.5mm, Pitch 0.95mm, Lead Span 2.8mm - Alternate Lead Configuration, IPC Low Density)
signal-integrity model HSM88WK
pins: 1 A1, 2 A2, 3 K

## HSM107S
designator D?
Silicon Schottky Barrier Diode for System Protection; Published: 12-Feb-2010; DatasheetVersion: Rev.7.00, Jan-2004; PackageVersion: Aug-2005; PackageReference: PLSP0003ZC-A; Publisher: Altium Limited; PackageDescription: 3-Pin Plastic SOT-23 Package 0.95 mm Pitch, 2.8 mm Lead Span - Alternate Lead Configuration (MPAK); Code_JEITA: SC-59A; ComponentLink1Description: Manufacturer Link; ComponentLink1URL: http://sg.renesas.com/fmwk.jsp?cnt=diode_landing.jsp&fp=/products/discrete/diodes/; ComponentLink2Description: Datasheet; ComponentLink2URL: http://documentation.renesas.com/eng/products/diode/rej03g0173_hsm107s.pdf; ComponentLink3Description: Packaging Specification; ComponentLink3URL: http://sg.renesas.com/media/products/common_info/package/pdf/diode/code/plsp0003zc_a.pdf
footprint PLSP0003ZC-A_N (SOT23, 3-Leads, Body 2.9x1.5mm, Pitch 0.95mm, Lead Span 2.8mm - Alternate Lead Configuration, IPC Medium Density)
footprint PLSP0003ZC-A_L (SOT23, 3-Leads, Body 2.9x1.5mm, Pitch 0.95mm, Lead Span 2.8mm - Alternate Lead Configuration, IPC High Density)
footprint PLSP0003ZC-A_M (SOT23, 3-Leads, Body 2.9x1.5mm, Pitch 0.95mm, Lead Span 2.8mm - Alternate Lead Configuration, IPC Low Density)
signal-integrity model HSM107S
pins: 1 K, 2 A, 3 C

## HSM123
designator D?
Silicon Epitaxial Planar Diode for High Speed Switching; Published: 12-Feb-2010; DatasheetVersion: Rev.8.00, Dec-2008; PackageVersion: Aug-2005; PackageReference: PLSP0003ZC-A; Publisher: Altium Limited; PackageDescription: 3-Pin Plastic SOT-23 Package 0.95 mm Pitch, 2.8 mm Lead Span - Alternate Lead Configuration (MPAK); Code_JEITA: SC-59A; ComponentLink1Description: Manufacturer Link; ComponentLink1URL: http://sg.renesas.com/fmwk.jsp?cnt=diode_landing.jsp&fp=/products/discrete/diodes/; ComponentLink2Description: Datasheet; ComponentLink2URL: http://documentation.renesas.com/eng/products/diode/rej03g0550_hsm123.pdf; ComponentLink3Description: Packaging Specification; ComponentLink3URL: http://sg.renesas.com/media/products/common_info/package/pdf/diode/code/plsp0003zc_a.pdf
footprint PLSP0003ZC-A_N (SOT23, 3-Leads, Body 2.9x1.5mm, Pitch 0.95mm, Lead Span 2.8mm - Alternate Lead Configuration, IPC Medium Density)
footprint PLSP0003ZC-A_L (SOT23, 3-Leads, Body 2.9x1.5mm, Pitch 0.95mm, Lead Span 2.8mm - Alternate Lead Configuration, IPC High Density)
footprint PLSP0003ZC-A_M (SOT23, 3-Leads, Body 2.9x1.5mm, Pitch 0.95mm, Lead Span 2.8mm - Alternate Lead Configuration, IPC Low Density)
signal-integrity model HSM123
pins: 1 K, 2 A, 3 C

## HSM124S
designator D?
Silicon Epitaxial Planar Diode for Switching; Published: 12-Feb-2010; DatasheetVersion: Rev.8.00, Dec-2008; PackageVersion: Aug-2005; PackageReference: PLSP0003ZC-A; Publisher: Altium Limited; PackageDescription: 3-Pin Plastic SOT-23 Package 0.95 mm Pitch, 2.8 mm Lead Span - Alternate Lead Configuration (MPAK); Code_JEITA: SC-59A; ComponentLink1Description: Manufacturer Link; ComponentLink1URL: http://sg.renesas.com/fmwk.jsp?cnt=diode_landing.jsp&fp=/products/discrete/diodes/; ComponentLink2Description: Datasheet; ComponentLink2URL: http://documentation.renesas.com/eng/products/diode/rej03g0551_hsm124s.pdf; ComponentLink3Description: Packaging Specification; ComponentLink3URL: http://sg.renesas.com/media/products/common_info/package/pdf/diode/code/plsp0003zc_a.pdf
footprint PLSP0003ZC-A_N (SOT23, 3-Leads, Body 2.9x1.5mm, Pitch 0.95mm, Lead Span 2.8mm - Alternate Lead Configuration, IPC Medium Density)
footprint PLSP0003ZC-A_L (SOT23, 3-Leads, Body 2.9x1.5mm, Pitch 0.95mm, Lead Span 2.8mm - Alternate Lead Configuration, IPC High Density)
footprint PLSP0003ZC-A_M (SOT23, 3-Leads, Body 2.9x1.5mm, Pitch 0.95mm, Lead Span 2.8mm - Alternate Lead Configuration, IPC Low Density)
signal-integrity model HSM124S
pins: 1 K, 2 A, 3 C

## HSM126S
designator D?
Silicon Schottky Barrier Diode for System Protection; Published: 12-Feb-2010; DatasheetVersion: Rev.4.00, Jan-2004; PackageVersion: Aug-2005; PackageReference: PLSP0003ZC-A; Publisher: Altium Limited; PackageDescription: 3-Pin Plastic SOT-23 Package 0.95 mm Pitch, 2.8 mm Lead Span - Alternate Lead Configuration (MPAK); Code_JEITA: SC-59A; ComponentLink1Description: Manufacturer Link; ComponentLink1URL: http://sg.renesas.com/fmwk.jsp?cnt=diode_landing.jsp&fp=/products/discrete/diodes/; ComponentLink2Description: Datasheet; ComponentLink2URL: http://documentation.renesas.com/eng/products/diode/rej03g0174_hsm126s.pdf; ComponentLink3Description: Packaging Specification; ComponentLink3URL: http://sg.renesas.com/media/products/common_info/package/pdf/diode/code/plsp0003zc_a.pdf
footprint PLSP0003ZC-A_N (SOT23, 3-Leads, Body 2.9x1.5mm, Pitch 0.95mm, Lead Span 2.8mm - Alternate Lead Configuration, IPC Medium Density)
footprint PLSP0003ZC-A_L (SOT23, 3-Leads, Body 2.9x1.5mm, Pitch 0.95mm, Lead Span 2.8mm - Alternate Lead Configuration, IPC High Density)
footprint PLSP0003ZC-A_M (SOT23, 3-Leads, Body 2.9x1.5mm, Pitch 0.95mm, Lead Span 2.8mm - Alternate Lead Configuration, IPC Low Density)
signal-integrity model HSM126S
pins: 1 K, 2 A, 3 C

## HSM198S
designator D?
Silicon Schottky Barrier Diode for Various Detector; Published: 12-Feb-2010; DatasheetVersion: Rev.4.00, Apr-2005; PackageVersion: Aug-2005; PackageReference: PLSP0003ZC-A; Publisher: Altium Limited; PackageDescription: 3-Pin Plastic SOT-23 Package 0.95 mm Pitch, 2.8 mm Lead Span - Alternate Lead Configuration (MPAK); Code_JEITA: SC-59A; ComponentLink1Description: Manufacturer Link; ComponentLink1URL: http://sg.renesas.com/fmwk.jsp?cnt=diode_landing.jsp&fp=/products/discrete/diodes/; ComponentLink2Description: Datasheet; ComponentLink2URL: http://documentation.renesas.com/eng/products/diode/rej03g0607_hsm198s.pdf; ComponentLink3Description: Packaging Specification; ComponentLink3URL: http://sg.renesas.com/media/products/common_info/package/pdf/diode/code/plsp0003zc_a.pdf
footprint PLSP0003ZC-A_N (SOT23, 3-Leads, Body 2.9x1.5mm, Pitch 0.95mm, Lead Span 2.8mm - Alternate Lead Configuration, IPC Medium Density)
footprint PLSP0003ZC-A_L (SOT23, 3-Leads, Body 2.9x1.5mm, Pitch 0.95mm, Lead Span 2.8mm - Alternate Lead Configuration, IPC High Density)
footprint PLSP0003ZC-A_M (SOT23, 3-Leads, Body 2.9x1.5mm, Pitch 0.95mm, Lead Span 2.8mm - Alternate Lead Configuration, IPC Low Density)
signal-integrity model HSM198S
pins: 1 K, 2 A, 3 C

## HSM221C
designator D?
Silicon Epitaxial Planar Diode for High Speed Switching; Published: 12-Feb-2010; DatasheetVersion: Rev.6.00, Dec-2008; PackageVersion: Aug-2005; PackageReference: PLSP0003ZC-A; Publisher: Altium Limited; PackageDescription: 3-Pin Plastic SOT-23 Package 0.95 mm Pitch, 2.8 mm Lead Span - Alternate Lead Configuration (MPAK); Code_JEITA: SC-59A; ComponentLink1Description: Manufacturer Link; ComponentLink1URL: http://sg.renesas.com/fmwk.jsp?cnt=diode_landing.jsp&fp=/products/discrete/diodes/; ComponentLink2Description: Datasheet; ComponentLink2URL: http://documentation.renesas.com/eng/products/diode/rej03g0552_hsm221c.pdf; ComponentLink3Description: Packaging Specification; ComponentLink3URL: http://sg.renesas.com/media/products/common_info/package/pdf/diode/code/plsp0003zc_a.pdf
footprint PLSP0003ZC-A_N (SOT23, 3-Leads, Body 2.9x1.5mm, Pitch 0.95mm, Lead Span 2.8mm - Alternate Lead Configuration, IPC Medium Density)
footprint PLSP0003ZC-A_L (SOT23, 3-Leads, Body 2.9x1.5mm, Pitch 0.95mm, Lead Span 2.8mm - Alternate Lead Configuration, IPC High Density)
footprint PLSP0003ZC-A_M (SOT23, 3-Leads, Body 2.9x1.5mm, Pitch 0.95mm, Lead Span 2.8mm - Alternate Lead Configuration, IPC Low Density)
signal-integrity model HSM221C
part A pins: 2 A, 3 K
part B pins: 1 NC

## HSM223C
designator D?
Silicon Epitaxial Planar Diode for High Speed Switching; Published: 12-Feb-2010; DatasheetVersion: Rev.6.00, Dec-2008; PackageVersion: Aug-2005; PackageReference: PLSP0003ZC-A; Publisher: Altium Limited; PackageDescription: 3-Pin Plastic SOT-23 Package 0.95 mm Pitch, 2.8 mm Lead Span - Alternate Lead Configuration (MPAK); Code_JEITA: SC-59A; ComponentLink1Description: Manufacturer Link; ComponentLink1URL: http://sg.renesas.com/fmwk.jsp?cnt=diode_landing.jsp&fp=/products/discrete/diodes/; ComponentLink2Description: Datasheet; ComponentLink2URL: http://documentation.renesas.com/eng/products/diode/rej03g0553_hsm223c.pdf; ComponentLink3Description: Packaging Specification; ComponentLink3URL: http://sg.renesas.com/media/products/common_info/package/pdf/diode/code/plsp0003zc_a.pdf
footprint PLSP0003ZC-A_N (SOT23, 3-Leads, Body 2.9x1.5mm, Pitch 0.95mm, Lead Span 2.8mm - Alternate Lead Configuration, IPC Medium Density)
footprint PLSP0003ZC-A_L (SOT23, 3-Leads, Body 2.9x1.5mm, Pitch 0.95mm, Lead Span 2.8mm - Alternate Lead Configuration, IPC High Density)
footprint PLSP0003ZC-A_M (SOT23, 3-Leads, Body 2.9x1.5mm, Pitch 0.95mm, Lead Span 2.8mm - Alternate Lead Configuration, IPC Low Density)
signal-integrity model HSM223C
part A pins: 2 A, 3 K
part B pins: 1 NC

## HSM226S
designator D?
Silicon Schottky Barrier Diode for High Speed Switching; Published: 12-Feb-2010; DatasheetVersion: Rev.2.00, Sep-2006; PackageVersion: Aug-2005; PackageReference: PLSP0003ZC-A; Publisher: Altium Limited; PackageDescription: 3-Pin Plastic SOT-23 Package 0.95 mm Pitch, 2.8 mm Lead Span - Alternate Lead Configuration (MPAK); Code_JEITA: SC-59A; ComponentLink1Description: Manufacturer Link; ComponentLink1URL: http://sg.renesas.com/fmwk.jsp?cnt=diode_landing.jsp&fp=/products/discrete/diodes/; ComponentLink2Description: Datasheet; ComponentLink2URL: http://documentation.renesas.com/eng/products/diode/rej03g0057_hsm226s.pdf; ComponentLink3Description: Packaging Specification; ComponentLink3URL: http://sg.renesas.com/media/products/common_info/package/pdf/diode/code/plsp0003zc_a.pdf
footprint PLSP0003ZC-A_N (SOT23, 3-Leads, Body 2.9x1.5mm, Pitch 0.95mm, Lead Span 2.8mm - Alternate Lead Configuration, IPC Medium Density)
footprint PLSP0003ZC-A_L (SOT23, 3-Leads, Body 2.9x1.5mm, Pitch 0.95mm, Lead Span 2.8mm - Alternate Lead Configuration, IPC High Density)
footprint PLSP0003ZC-A_M (SOT23, 3-Leads, Body 2.9x1.5mm, Pitch 0.95mm, Lead Span 2.8mm - Alternate Lead Configuration, IPC Low Density)
signal-integrity model HSM226S
pins: 1 K, 2 A, 3 C

## HSM276AS
designator D?
Silicon Schottky Barrier Diode for Balanced Mixer; Published: 12-Feb-2010; DatasheetVersion: Rev.1.00, Apr-2005; PackageVersion: Aug-2005; PackageReference: PLSP0003ZC-A; Publisher: Altium Limited; PackageDescription: 3-Pin Plastic SOT-23 Package 0.95 mm Pitch, 2.8 mm Lead Span - Alternate Lead Configuration (MPAK); Code_JEITA: SC-59A; ComponentLink1Description: Manufacturer Link; ComponentLink1URL: http://sg.renesas.com/fmwk.jsp?cnt=diode_landing.jsp&fp=/products/discrete/diodes/; ComponentLink2Description: Datasheet; ComponentLink2URL: http://documentation.renesas.com/eng/products/diode/rej03g0608_hsm276as.pdf; ComponentLink3Description: Packaging Specification; ComponentLink3URL: http://sg.renesas.com/media/products/common_info/package/pdf/diode/code/plsp0003zc_a.pdf
footprint PLSP0003ZC-A_N (SOT23, 3-Leads, Body 2.9x1.5mm, Pitch 0.95mm, Lead Span 2.8mm - Alternate Lead Configuration, IPC Medium Density)
footprint PLSP0003ZC-A_L (SOT23, 3-Leads, Body 2.9x1.5mm, Pitch 0.95mm, Lead Span 2.8mm - Alternate Lead Configuration, IPC High Density)
footprint PLSP0003ZC-A_M (SOT23, 3-Leads, Body 2.9x1.5mm, Pitch 0.95mm, Lead Span 2.8mm - Alternate Lead Configuration, IPC Low Density)
signal-integrity model HSM276AS
pins: 1 K, 2 A, 3 C

## HSM276ASR
designator D?
Silicon Schottky Barrier Diode for Balanced Mixer; Published: 12-Feb-2010; DatasheetVersion: Rev.1.00, Apr-2005; PackageVersion: Aug-2005; PackageReference: PLSP0003ZC-A; Publisher: Altium Limited; PackageDescription: 3-Pin Plastic SOT-23 Package 0.95 mm Pitch, 2.8 mm Lead Span - Alternate Lead Configuration (MPAK); Code_JEITA: SC-59A; ComponentLink1Description: Manufacturer Link; ComponentLink1URL: http://sg.renesas.com/fmwk.jsp?cnt=diode_landing.jsp&fp=/products/discrete/diodes/; ComponentLink2Description: Datasheet; ComponentLink2URL: http://documentation.renesas.com/eng/products/diode/rej03g0609_hsm276asr.pdf; ComponentLink3Description: Packaging Specification; ComponentLink3URL: http://sg.renesas.com/media/products/common_info/package/pdf/diode/code/plsp0003zc_a.pdf
footprint PLSP0003ZC-A_N (SOT23, 3-Leads, Body 2.9x1.5mm, Pitch 0.95mm, Lead Span 2.8mm - Alternate Lead Configuration, IPC Medium Density)
footprint PLSP0003ZC-A_L (SOT23, 3-Leads, Body 2.9x1.5mm, Pitch 0.95mm, Lead Span 2.8mm - Alternate Lead Configuration, IPC High Density)
footprint PLSP0003ZC-A_M (SOT23, 3-Leads, Body 2.9x1.5mm, Pitch 0.95mm, Lead Span 2.8mm - Alternate Lead Configuration, IPC Low Density)
signal-integrity model HSM276ASR
pins: 1 A, 2 K, 3 C

## HSM276S
designator D?
Silicon Schottky Barrier Diode for Balanced Mixer; Published: 12-Feb-2010; DatasheetVersion: Rev.7.00, Apr-2005; PackageVersion: Aug-2005; PackageReference: PLSP0003ZC-A; Publisher: Altium Limited; PackageDescription: 3-Pin Plastic SOT-23 Package 0.95 mm Pitch, 2.8 mm Lead Span - Alternate Lead Configuration (MPAK); Code_JEITA: SC-59A; ComponentLink1Description: Manufacturer Link; ComponentLink1URL: http://sg.renesas.com/fmwk.jsp?cnt=diode_landing.jsp&fp=/products/discrete/diodes/; ComponentLink2Description: Datasheet; ComponentLink2URL: http://documentation.renesas.com/eng/products/diode/rej03g0610_hsm276s.pdf; ComponentLink3Description: Packaging Specification; ComponentLink3URL: http://sg.renesas.com/media/products/common_info/package/pdf/diode/code/plsp0003zc_a.pdf
footprint PLSP0003ZC-A_N (SOT23, 3-Leads, Body 2.9x1.5mm, Pitch 0.95mm, Lead Span 2.8mm - Alternate Lead Configuration, IPC Medium Density)
footprint PLSP0003ZC-A_L (SOT23, 3-Leads, Body 2.9x1.5mm, Pitch 0.95mm, Lead Span 2.8mm - Alternate Lead Configuration, IPC High Density)
footprint PLSP0003ZC-A_M (SOT23, 3-Leads, Body 2.9x1.5mm, Pitch 0.95mm, Lead Span 2.8mm - Alternate Lead Configuration, IPC Low Density)
signal-integrity model HSM276S
pins: 1 K, 2 A, 3 C

## HSM276SR
designator D?
Silicon Schottky Barrier Diode for Balanced Mixer; Published: 12-Feb-2010; DatasheetVersion: Rev.5.00, Nov-2003; PackageVersion: Aug-2005; PackageReference: PLSP0003ZC-A; Publisher: Altium Limited; PackageDescription: 3-Pin Plastic SOT-23 Package 0.95 mm Pitch, 2.8 mm Lead Span - Alternate Lead Configuration (MPAK); Code_JEITA: SC-59A; ComponentLink1Description: Manufacturer Link; ComponentLink1URL: http://sg.renesas.com/fmwk.jsp?cnt=diode_landing.jsp&fp=/products/discrete/diodes/; ComponentLink2Description: Datasheet; ComponentLink2URL: http://documentation.renesas.com/eng/products/diode/rej03g0139_hsm276sr.pdf; ComponentLink3Description: Packaging Specification; ComponentLink3URL: http://sg.renesas.com/media/products/common_info/package/pdf/diode/code/plsp0003zc_a.pdf
footprint PLSP0003ZC-A_N (SOT23, 3-Leads, Body 2.9x1.5mm, Pitch 0.95mm, Lead Span 2.8mm - Alternate Lead Configuration, IPC Medium Density)
footprint PLSP0003ZC-A_L (SOT23, 3-Leads, Body 2.9x1.5mm, Pitch 0.95mm, Lead Span 2.8mm - Alternate Lead Configuration, IPC High Density)
footprint PLSP0003ZC-A_M (SOT23, 3-Leads, Body 2.9x1.5mm, Pitch 0.95mm, Lead Span 2.8mm - Alternate Lead Configuration, IPC Low Density)
signal-integrity model HSM276SR
pins: 1 A, 2 K, 3 C

## HSM2694
designator D?
Silicon Epitaxial Planar Diode for Tuner Band Switch; Published: 12-Feb-2010; DatasheetVersion: Rev.2.00, Oct-2003; PackageVersion: Aug-2005; PackageReference: PLSP0003ZC-A; Publisher: Altium Limited; PackageDescription: 3-Pin Plastic SOT-23 Package 0.95 mm Pitch, 2.8 mm Lead Span - Alternate Lead Configuration (MPAK); Code_JEITA: SC-59A; ComponentLink1Description: Manufacturer Link; ComponentLink1URL: http://sg.renesas.com/fmwk.jsp?cnt=diode_landing.jsp&fp=/products/discrete/diodes/; ComponentLink2Description: Datasheet; ComponentLink2URL: http://documentation.renesas.com/eng/products/diode/rej03g0110_hsm2694.pdf; ComponentLink3Description: Packaging Specification; ComponentLink3URL: http://sg.renesas.com/media/products/common_info/package/pdf/diode/code/plsp0003zc_a.pdf
footprint PLSP0003ZC-A_N (SOT23, 3-Leads, Body 2.9x1.5mm, Pitch 0.95mm, Lead Span 2.8mm - Alternate Lead Configuration, IPC Medium Density)
footprint PLSP0003ZC-A_L (SOT23, 3-Leads, Body 2.9x1.5mm, Pitch 0.95mm, Lead Span 2.8mm - Alternate Lead Configuration, IPC High Density)
footprint PLSP0003ZC-A_M (SOT23, 3-Leads, Body 2.9x1.5mm, Pitch 0.95mm, Lead Span 2.8mm - Alternate Lead Configuration, IPC Low Density)
signal-integrity model HSM2694
pins: 1 K1, 2 K2, 3 A